# Altium footprint library mb1246b.brd.PcbLib: 73 footprints (part 3 of 6)
Each footprint in its own frame and in the unit in brackets; x right, y up, seen from the top. Pads: shape width x height; smd on the part's side, far side on the other; paste and mask are expansions set on the pad; w line width, h text height; cw(c..) or ccw(c..) is an arc to the next point about the centre after c.
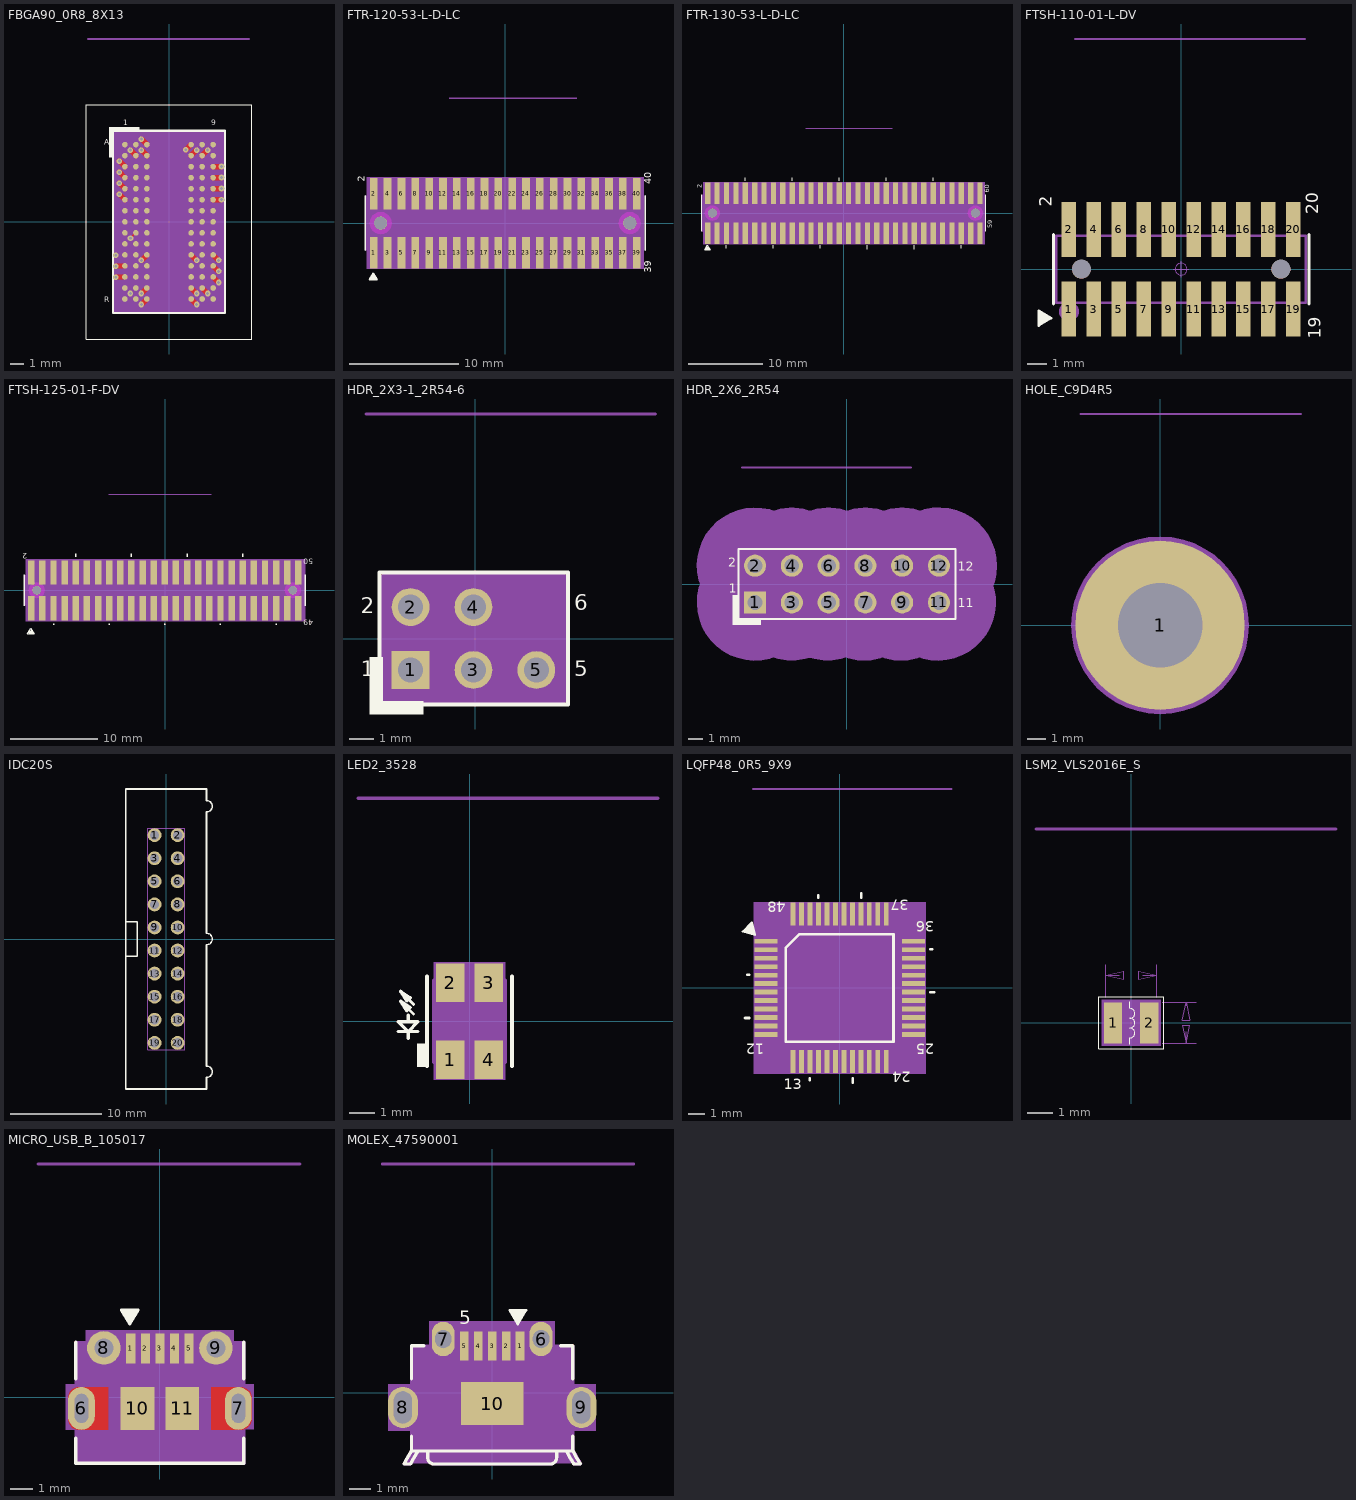
[diagram p2: the footprints below, top view; thin cyan lines are the x and y axes]

## FBGA90_0R8_8X13 [mil] "FBGA90_0R8_8X13"
pads (90):
  round 16 smd: A1(-125.98,220.47) A2(-94.49,220.47) A3(-62.99,220.47) A7(62.99,220.47) A8(94.49,220.47) A9(125.98,220.47) B1(-125.98,188.98) B2(-94.49,188.98) B3(-62.99,188.98) B7(62.99,188.98) B8(94.49,188.98) B9(125.98,188.98) C1(-125.98,157.48) C2(-94.49,157.48) C3(-62.99,157.48) C7(62.99,157.48) C8(94.49,157.48) C9(125.98,157.48) D1(-125.98,125.98) D2(-94.49,125.98) D3(-62.99,125.98) D7(62.99,125.98) D8(94.49,125.98) D9(125.98,125.98) E1(-125.98,94.49) E2(-94.49,94.49) E3(-62.99,94.49) E7(62.99,94.49) E8(94.49,94.49) E9(125.98,94.49) F1(-125.98,62.99) F2(-94.49,62.99) F3(-62.99,62.99) F7(62.99,62.99) F8(94.49,62.99) F9(125.98,62.99) G1(-125.98,31.5) G2(-94.49,31.5) G3(-62.99,31.5) G7(62.99,31.5) G8(94.49,31.5) G9(125.98,31.5) H1(-125.98,0) H2(-94.49,0) H3(-62.99,0) H7(62.99,0) H8(94.49,0) H9(125.98,0) J1(-125.98,-31.5) J2(-94.49,-31.5) J3(-62.99,-31.5) J7(62.99,-31.5) J8(94.49,-31.5) J9(125.98,-31.5) K1(-125.98,-62.99) K2(-94.49,-62.99) K3(-62.99,-62.99) K7(62.99,-62.99) K8(94.49,-62.99) K9(125.98,-62.99) L1(-125.98,-94.49) L2(-94.49,-94.49) L3(-62.99,-94.49) L7(62.99,-94.49) L8(94.49,-94.49) L9(125.98,-94.49) M1(-125.98,-125.98) M2(-94.49,-125.98) M3(-62.99,-125.98) M7(62.99,-125.98) M8(94.49,-125.98) M9(125.98,-125.98) N1(-125.98,-157.48) N2(-94.49,-157.48) N3(-62.99,-157.48) N7(62.99,-157.48) N8(94.49,-157.48) N9(125.98,-157.48) P1(-125.98,-188.98) P2(-94.49,-188.98) P3(-62.99,-188.98) P7(62.99,-188.98) P8(94.49,-188.98) P9(125.98,-188.98) R1(-125.98,-220.47) R2(-94.49,-220.47) R3(-62.99,-220.47) R7(62.99,-220.47) R8(94.49,-220.47) R9(125.98,-220.47)
via -78.74,236.22 diameter 16 hole 8
via 48,205.48 diameter 16 hole 8
via -110.24,204.73 diameter 16 hole 8
via -78.74,204.73 diameter 16 hole 8
via 78.74,204.73 diameter 16 hole 8
via 110.23,204.73 diameter 16 hole 8
via -141.73,173.23 diameter 16 hole 8
via 150.01,157.99 diameter 16 hole 8
via -141.73,141.73 diameter 16 hole 8
via 150,126.49 diameter 16 hole 8
via -141.73,110.24 diameter 16 hole 8
via 150,95 diameter 16 hole 8
via -141.73,78.74 diameter 16 hole 8
via 150,63.5 diameter 16 hole 8
via -110,-47.01 diameter 16 hole 8
via -151.97,-95.24 diameter 16 hole 8
via 141.72,-110.23 diameter 16 hole 8
via -78.74,-110.24 diameter 16 hole 8
via 78.74,-110.24 diameter 16 hole 8
via -151.97,-126.73 diameter 16 hole 8
via 141.72,-141.72 diameter 16 hole 8
via -151.97,-158.24 diameter 16 hole 8
via 141.73,-173.23 diameter 16 hole 8
via -110.24,-204.72 diameter 16 hole 8
via 110.23,-204.72 diameter 16 hole 8
via -78.74,-204.73 diameter 16 hole 8
via 78.74,-204.73 diameter 16 hole 8
via -78.74,-236.22 diameter 16 hole 8
via 78.74,-236.22 diameter 16 hole 8
Top Layer:
  lines w4: -110,-47.01 -94.49,-31.5
  lines w15: -151.97,-158.24 -151.21,-157.48 -125.98,-157.48 ; -151.97,-126.73 -151.22,-125.98 -125.98,-125.98 ; -141.73,78.74 -125.98,62.99 ; -141.73,110.24 -125.98,94.49 ; -141.73,141.73 -125.98,125.98 ; -141.73,173.23 -125.98,157.48 ; -110.24,204.73 -94.49,188.98 ; -78.74,-236.22 -62.99,-220.47 ; -78.74,-204.73 -62.99,-188.98 ; -78.74,-110.24 -62.99,-94.49 ; -78.74,204.73 -62.99,188.98 ; -78.74,236.22 -62.99,220.47 ; 48,205.48 62.99,220.47 ; 62.99,-220.47 78.74,-236.22 ; 62.99,-188.98 78.74,-204.73 ; 62.99,-94.49 78.74,-110.24 ; 62.99,188.98 78.74,204.73 ; 94.49,-188.98 110.23,-204.72 ; 94.49,188.98 110.23,204.73 ; 125.98,-157.48 141.73,-173.23 ; 125.98,-125.98 141.72,-141.72 ; 125.98,-94.49 141.72,-110.23 ; 125.98,62.99 149.49,62.99 150,63.5 ; 125.98,94.49 149.49,94.49 150,95 ; 125.98,125.98 149.49,125.98 150,126.49 ; 125.98,157.48 149.5,157.48 150.01,157.99
Top Overlay:
  dashed: -85,260 -85,270 -170,270 -170,185 -160,185 -160,260
  lines w1: -236.22,-334.65 -236.22,334.65 236.22,334.65 236.22,-334.65 -236.22,-334.65
  lines w5.91: -160,-260 -160,260 160,260 160,-260 -160,-260
  text "A" at -185,220 h15.98
  text "1" at -130,275 h15.98
  text "9" at 120,275 h15.98
  text "R" at -185,-230 h15.98
Top 3D Body:
  region: -155,-255.91 155,-255.91 155,255.91 -155,255.91
Top Component Center:
  circle w1: c0,0 r11.81
  circle w1: c0,0 r11.81
  lines w1: -15.75,0 15.75,0 -15.75,0 ; 0,-15.75 0,15.75 0,-15.75
Top Assembly:
  dashed: 20,255 -155,80 -155,255
  lines w5: -157.48,-255.91 -157.48,255.91 157.48,255.91 157.48,-255.91 -157.48,-255.91
  text "IS42S32800G-6BLI" at 15,-517 h30
  text ".Designator" at 5,-85 h50
Mechanical42:
  text "E7" at 62.99,81.69 h16
  text "H7" at 62.99,-12.8 h16
  text "E3" at -62.99,81.69 h16
  text "K3" at -62.99,-75.79 h16
  text "K2" at -94.49,-75.79 h16
  text "H3" at -62.99,-12.8 h16
  text "H8" at 94.49,-12.8 h16
  text "J7" at 62.99,-44.3 h16
  text "H9" at 125.98,-12.8 h16
  text "G3" at -62.99,18.7 h16
  text "G2" at -94.49,18.7 h16
  text "G1" at -125.98,18.7 h16
  text "F3" at -62.99,50.19 h16
  text "F7" at 62.99,50.19 h16
  text "G9" at 125.98,18.7 h16
  text "G8" at 94.49,18.7 h16
  text "R2" at -94.49,-233.27 h16
  text "N3" at -62.99,-170.28 h16
  text "R1" at -125.98,-233.27 h16
  text "N2" at -94.49,-170.28 h16
  text "P1" at -125.98,-201.78 h16
  text "M2" at -94.49,-138.78 h16
  text "M3" at -62.99,-138.78 h16
  text "L2" at -94.49,-107.29 h16
  text "L8" at 94.49,-107.29 h16
  text "M7" at 62.99,-138.78 h16
  text "N8" at 94.49,-170.28 h16
  text "R9" at 125.98,-233.27 h16
  text "N7" at 62.99,-170.28 h16
  text "R8" at 94.49,-233.27 h16
  text "F2" at -94.49,50.19 h16
  text "F8" at 94.49,50.19 h16
  text "J8" at 94.49,-44.3 h16
  text "K8" at 94.49,-75.79 h16
  text "K7" at 62.99,-75.79 h16
  text "J1" at -125.98,-44.3 h16
  text "J9" at 125.98,-44.3 h16
  text "K1" at -125.98,-75.79 h16
  text "K9" at 125.98,-75.79 h16
  text "C1" at -125.98,144.68 h16
  text "D1" at -125.98,113.18 h16
  text "F1" at -125.98,50.19 h16
  text "M1" at -125.98,-138.78 h16
  text "N1" at -125.98,-170.28 h16
  text "B3" at -62.99,176.18 h16
  text "A3" at -62.99,207.67 h16
  text "P3" at -62.99,-201.78 h16
  text "L3" at -62.99,-107.29 h16
  text "R3" at -62.99,-233.27 h16
  text "B8" at 94.49,176.18 h16
  text "E9" at 125.98,81.69 h16
  text "P8" at 94.49,-201.78 h16
  text "L9" at 125.98,-107.29 h16
  text "E1" at -125.98,81.69 h16
  text "L1" at -125.98,-107.29 h16
  text "B2" at -94.49,176.18 h16
  text "B7" at 62.99,176.18 h16
  text "A7" at 62.99,207.67 h16
  text "P2" at -94.49,-201.78 h16
  text "P7" at 62.99,-201.78 h16
  text "L7" at 62.99,-107.29 h16
  text "R7" at 62.99,-233.27 h16
  text "C9" at 125.98,144.68 h16
  text "D9" at 125.98,113.18 h16
  text "F9" at 125.98,50.19 h16
  text "M9" at 125.98,-138.78 h16
  text "N9" at 125.98,-170.28 h16
  text "J2" at -94.49,-44.3 h16
  text "E2" at -94.49,81.69 h16
  text "D3" at -62.99,113.18 h16
  text "D2" at -94.49,113.18 h16
  text "B1" at -125.98,176.18 h16
  text "C2" at -94.49,144.68 h16
  text "A1" at -125.98,207.67 h16
  text "C3" at -62.99,144.68 h16
  text "A2" at -94.49,207.67 h16
  text "A8" at 94.49,207.67 h16
  text "C7" at 62.99,144.68 h16
  text "A9" at 125.98,207.67 h16
  text "C8" at 94.49,144.68 h16
  text "B9" at 125.98,176.18 h16
  text "D8" at 94.49,113.18 h16
  text "D7" at 62.99,113.18 h16
  text "E8" at 94.49,81.69 h16
  text "G7" at 62.99,18.7 h16
  text "J3" at -62.99,-44.3 h16
  text "H2" at -94.49,-12.8 h16
  text "H1" at -125.98,-12.8 h16
  text "M8" at 94.49,-138.78 h16
  text "P9" at 125.98,-201.78 h16
Mechanical44:
  lines w5: -231,522 229,522
  text "Remark: ***" at -201,322 h25
  text "Rev   : A1" at -201,362 h25
  text "Date  : 2008-07-29" at -201,402 h25
  text "Creat : Yuki" at -201,442 h25
  text "Ref PN: MT48LC2M3B2B5" at -201,482 h25
  text "Sofer Lib Information" at -231,532 h25
Mechanical45:
  text "FBGA90_0R8_8X13" at 5,-505 h30
Mechanical49:
  text "OK" at 0,-28 h35
3D body: height 150, standoff 0, extent -155,-255.91 155,255.91

## FTR-120-53-L-D-LC [mil] "FTR-120-53-L-D-LC"
pads (42):
  rect 28x114 smd: 1(-475,-106.5) 2(-475,106.5) 3(-425,-106.5) 4(-425,106.5) 5(-375,-106.5) 6(-375,106.5) 7(-325,-106.5) 8(-325,106.5) 9(-275,-106.5) 10(-275,106.5) 11(-225,-106.5) 12(-225,106.5) 13(-175,-106.5) 14(-175,106.5) 15(-125,-106.5) 16(-125,106.5) 17(-75,-106.5) 18(-75,106.5) 19(-25,-106.5) 20(-25,106.5) 21(25,-106.5) 22(25,106.5) 23(75,-106.5) 24(75,106.5) 25(125,-106.5) 26(125,106.5) 27(175,-106.5) 28(175,106.5) 29(225,-106.5) 30(225,106.5) 31(275,-106.5) 32(275,106.5) 33(325,-106.5) 34(325,106.5) 35(375,-106.5) 36(375,106.5) 37(425,-106.5) 38(425,106.5) 39(475,-106.5) 40(475,106.5)
  round 47 hole 47 unplated: ""(-450,0) ""(450,0)
Top Overlay:
  lines w5: -478,-191.5 -473,-191.5 -477,-185.5 -483,-194.5 -472,-194.5 -470,-197.5 -485,-197.5 -487,-201.5 -467,-201.5 -467,-205.5 -462,-205.5 ; -462,-205.5 -477,-180.5 -492,-205.5 -462,-205.5
  lines w6: -505.98,-98.03 -505.98,98.03 ; 505.98,-98.03 505.98,98.03
  text "2" at -508,150 h25
  text "40" at 527,140 h25
  text "39" at 527,-180 h25
  text ".Designator" at -528,-35 h35
Top 3D Body:
  region: -500,165 -500,-165 500,-165 500,165
Top Component Center:
  circle w1: c0,0 r11.81
  lines w1: -15.75,0 15.75,0 ; 0,-15.75 0,15.75
Multi-Layer keep-out:
  region: 450,39.71 439.72,38.36 430.15,34.39 421.92,28.08 415.61,19.85 411.64,10.28 410.29,0 411.64,-10.28 415.61,-19.85 421.92,-28.08 430.15,-34.39 439.72,-38.36 450,-39.71 460.28,-38.36 469.85,-34.39 478.08,-28.08 484.39,-19.85 488.36,-10.28 489.71,0 488.36,10.28 484.39,19.85 478.08,28.08 469.85,34.39 460.28,38.36
  region: -450,39.71 -460.28,38.36 -469.85,34.39 -478.08,28.08 -484.39,19.85 -488.36,10.28 -489.71,0 -488.36,-10.28 -484.39,-19.85 -478.08,-28.08 -469.85,-34.39 -460.28,-38.36 -450,-39.71 -439.72,-38.36 -430.15,-34.39 -421.92,-28.08 -415.61,-19.85 -411.64,-10.28 -410.29,0 -411.64,10.28 -415.61,19.85 -421.92,28.08 -430.15,34.39 -439.72,38.36
Top Assembly:
  drawing of 165 lines, arcs and shapes, not listed
  text "P1039-2_20MGF-089-1A" at -13.86,-499.58 h30
Mechanical42:
  text "25" at 132,-134.09 h16
  text "28" at 182,78.9 h16
  text "34" at 332,78.9 h16
  text "33" at 332,-134.09 h16
  text "7" at -318,-121.29 h16
  text "5" at -368,-121.29 h16
  text "36" at 382,78.9 h16
  text "37" at 432,-134.09 h16
  text "35" at 382,-134.09 h16
  text "17" at -68,-134.09 h16
  text "20" at -18,78.9 h16
  text "19" at -18,-134.09 h16
  text "15" at -118,-134.09 h16
  text "16" at -118,78.9 h16
  text "13" at -168,-134.09 h16
  text "12" at -218,78.9 h16
  text "38" at 432,78.9 h16
  text "39" at 482,-134.09 h16
  text "1" at -468,-121.29 h16
  text "2" at -468,91.7 h16
  text "40" at 482,78.9 h16
  text "8" at -318,91.7 h16
  text "10" at -268,78.9 h16
  text "9" at -268,-121.29 h16
  text "30" at 232,78.9 h16
  text "29" at 232,-134.09 h16
  text "32" at 282,78.9 h16
  text "27" at 182,-134.09 h16
  text "24" at 82,78.9 h16
  text "26" at 132,78.9 h16
  text "22" at 32,78.9 h16
  text "6" at -368,91.7 h16
  text "18" at -68,78.9 h16
  text "4" at -418,91.7 h16
  text "3" at -418,-121.29 h16
  text "14" at -168,78.9 h16
  text "11" at -218,-134.09 h16
  text "31" at 282,-134.09 h16
  text "23" at 82,-134.09 h16
  text "21" at 32,-134.09 h16
Mechanical44:
  lines w5: -202.42,451.69 257.58,451.69
  text "Remark: D031-006A1" at -172.42,251.69 h25
  text "Rev   : A1" at -172.42,291.69 h25
  text "Date  : 2012-08-01" at -172.42,331.69 h25
  text "Creat : Yuki" at -172.42,371.69 h25
  text "Ref PN: FTR-120-53-L-D-LC" at -172.42,411.69 h25
  text "Sofer Lib Information" at -202.42,461.69 h25
Mechanical45:
  text "FTR-120-53-L-D-LC" at -19.29,-469.02 h30
Mechanical46:
  text "NO" at 7.92,-42.29 h35
3D body: height 150, standoff 0, extent -500,-165 500,165

## FTR-130-53-L-D-LC [mil] "FTR-130-53-L-D-LC"
pads (62):
  rect 28x114 smd: 1(-725,-106.5) 2(-725,106.5) 3(-675,-106.5) 4(-675,106.5) 5(-625,-106.5) 6(-625,106.5) 7(-575,-106.5) 8(-575,106.5) 9(-525,-106.5) 10(-525,106.5) 11(-475,-106.5) 12(-475,106.5) 13(-425,-106.5) 14(-425,106.5) 15(-375,-106.5) 16(-375,106.5) 17(-325,-106.5) 18(-325,106.5) 19(-275,-106.5) 20(-275,106.5) 21(-225,-106.5) 22(-225,106.5) 23(-175,-106.5) 24(-175,106.5) 25(-125,-106.5) 26(-125,106.5) 27(-75,-106.5) 28(-75,106.5) 29(-25,-106.5) 30(-25,106.5) 31(25,-106.5) 32(25,106.5) 33(75,-106.5) 34(75,106.5) 35(125,-106.5) 36(125,106.5) 37(175,-106.5) 38(175,106.5) 39(225,-106.5) 40(225,106.5) 41(275,-106.5) 42(275,106.5) 43(325,-106.5) 44(325,106.5) 45(375,-106.5) 46(375,106.5) 47(425,-106.5) 48(425,106.5) 49(475,-106.5) 50(475,106.5) 51(525,-106.5) 52(525,106.5) 53(575,-106.5) 54(575,106.5) 55(625,-106.5) 56(625,106.5) 57(675,-106.5) 58(675,106.5) 59(725,-106.5) 60(725,106.5)
  round 47 hole 47 unplated: ""(-700,0) ""(700,0)
Top Overlay:
  lines w5: -728,-181.5 -723,-181.5 -727,-175.5 -733,-184.5 -722,-184.5 -720,-187.5 -735,-187.5 -737,-191.5 -717,-191.5 -717,-195.5 -712,-195.5 ; -712,-195.5 -727,-170.5 -742,-195.5 -712,-195.5
  lines w6: -755.98,-98.03 -755.98,98.03 ; -625,-187 -625,-172 ; -525,173 -525,188 ; -375,-187 -375,-172 ; -275,173 -275,188 ; -125,-187 -125,-172 ; -25,173 -25,188 ; 125,-192 125,-172 ; 225,173 225,188 ; 375,-192 375,-172 ; 475,173 475,188 ; 625,-187 625,-172 ; 755.98,-98.03 755.98,98.03
  text "2" at -756,133 h25
  text "59" at 790,-82 h25
  text "60" at 775,108 h25
Top 3D Body:
  region: -750,-165 750,-165 750,165 -750,165
Top Component Center:
  circle w1: c0,0 r11.81
  lines w1: -15.75,0 15.75,0 ; 0,-15.75 0,15.75
Multi-Layer keep-out:
  region: 700,39.71 689.72,38.36 680.15,34.39 671.92,28.08 665.61,19.85 661.64,10.28 660.29,0 661.64,-10.28 665.61,-19.85 671.92,-28.08 680.15,-34.39 689.72,-38.36 700,-39.71 710.28,-38.36 719.85,-34.39 728.08,-28.08 734.39,-19.85 738.36,-10.28 739.71,0 738.36,10.28 734.39,19.85 728.08,28.08 719.85,34.39 710.28,38.36
  region: -700,39.71 -710.28,38.36 -719.85,34.39 -728.08,28.08 -734.39,19.85 -738.36,10.28 -739.71,0 -738.36,-10.28 -734.39,-19.85 -728.08,-28.08 -719.85,-34.39 -710.28,-38.36 -700,-39.71 -689.72,-38.36 -680.15,-34.39 -671.92,-28.08 -665.61,-19.85 -661.64,-10.28 -660.29,0 -661.64,10.28 -665.61,19.85 -671.92,28.08 -680.15,34.39 -689.72,38.36
Top Assembly:
  drawing of 245 lines, arcs and shapes, not listed
  text ".Designator" at -7.08,-40.29 h30
  text "P1039-2_30MGF-089-1A" at -13.86,-499.58 h30
Mechanical42:
  text "19" at -275,-119.3 h16
  text "23" at -175,-119.3 h16
  text "4" at -675,100.1 h16
  text "11" at -475,-119.3 h16
  text "8" at -575,100.1 h16
  text "17" at -325,-119.3 h16
  text "22" at -225,93.7 h16
  text "26" at -125,93.7 h16
  text "1" at -725,-112.9 h16
  text "45" at 375,-119.3 h16
  text "47" at 425,-119.3 h16
  text "56" at 625,93.7 h16
  text "54" at 575,93.7 h16
  text "53" at 575,-119.3 h16
  text "42" at 275,93.7 h16
  text "36" at 125,93.7 h16
  text "33" at 75,-119.3 h16
  text "40" at 225,93.7 h16
  text "41" at 275,-119.3 h16
  text "43" at 325,-119.3 h16
  text "38" at 175,93.7 h16
  text "15" at -375,-119.3 h16
  text "13" at -425,-119.3 h16
  text "32" at 25,93.7 h16
  text "28" at -75,93.7 h16
  text "27" at -75,-119.3 h16
  text "37" at 175,-119.3 h16
  text "2" at -725,100.1 h16
  text "24" at -175,93.7 h16
  text "34" at 75,93.7 h16
  text "35" at 125,-119.3 h16
  text "9" at -525,-112.9 h16
  text "44" at 325,93.7 h16
  text "46" at 375,93.7 h16
  text "51" at 525,-119.3 h16
  text "52" at 525,93.7 h16
  text "31" at 25,-119.3 h16
  text "29" at -25,-119.3 h16
  text "21" at -225,-119.3 h16
  text "49" at 475,-119.3 h16
  text "60" at 725,93.7 h16
  text "10" at -525,93.7 h16
  text "20" at -275,93.7 h16
  text "30" at -25,93.7 h16
  text "39" at 225,-119.3 h16
  text "50" at 475,93.7 h16
  text "59" at 725,-119.3 h16
  text "48" at 425,93.7 h16
  text "3" at -675,-112.9 h16
  text "16" at -375,93.7 h16
  text "18" at -325,93.7 h16
  text "12" at -475,93.7 h16
  text "14" at -425,93.7 h16
  text "57" at 675,-119.3 h16
  text "7" at -575,-112.9 h16
  text "25" at -125,-119.3 h16
  text "5" at -625,-112.9 h16
  text "6" at -625,100.1 h16
  text "58" at 675,93.7 h16
  text "55" at 625,-119.3 h16
Mechanical44:
  lines w5: -202.42,451.69 257.58,451.69
  text "Remark: D031-006A1" at -172.42,251.69 h25
  text "Rev   : A1" at -172.42,291.69 h25
  text "Date  : 2012-08-01" at -172.42,331.69 h25
  text "Creat : Yuki" at -172.42,371.69 h25
  text "Ref PN: FTR-130-53-L-D-LC" at -172.42,411.69 h25
  text "Sofer Lib Information" at -202.42,461.69 h25
Mechanical45:
  text "FTR-130-53-L-D-LC" at -19.29,-469.02 h30
Mechanical46:
  text "NO" at -2.08,-37.29 h35
3D body: height 150, standoff 0, extent -750,-165 750,165

## FTSH-110-01-L-DV [mil] "FTSH-110-01-L-DV"
pads (22):
  rect 29x110 smd: 1(-225,-79.92) 2(-225,79.92) 3(-175,-79.92) 4(-175,79.92) 5(-125,-79.92) 6(-125,79.92) 7(-75,-79.92) 8(-75,79.92) 9(-25,-79.92) 10(-25,79.92) 11(25,-79.92) 12(25,79.92) 13(75,-79.92) 14(75,79.92) 15(125,-79.92) 16(125,79.92) 17(175,-79.92) 18(175,79.92) 19(225,-79.92) 20(225,79.92)
  round 38 hole 38 unplated: ""(-200,0) ""(200,0)
Top Overlay:
  lines w5: -271.5,-97 -271.5,-102 -265.5,-98 -274.5,-92 -274.5,-103 -277.5,-105 -277.5,-90 -281.5,-88 -281.5,-108 -285.5,-108 -285.5,-113 ; -285.5,-113 -260.5,-98 -285.5,-83 -285.5,-113
  lines w6: -255.98,-70 -255.98,70 ; 255.98,-70 255.98,70
  text "2" at -260,125 h25
  text "20" at 275,110 h25
  text "19" at 280,-140 h25
  text ".Designator" at -265,-50 h35
Top Component Center:
  circle w1: c0,0 r11.81
  lines w1: -15.75,0 15.75,0 ; 0,-15.75 0,15.75
Top Assembly:
  circle w20: c-225,-85 r10
  lines w5: -250,-67.52 -234.84,-67.52 -234.84,-114.96 -215.16,-114.96 -215.16,-67.52 -184.84,-67.52 -184.84,-114.96 -165.16,-114.96 -165.16,-67.52 -134.84,-67.52 -134.84,-114.96 -115.16,-114.96 -115.16,-67.52 -84.84,-67.52 -84.84,-114.96 -65.16,-114.96 -65.16,-67.52 -34.84,-67.52 -34.84,-114.96 -15.16,-114.96 -15.16,-67.52 15.16,-67.52 15.16,-114.96 34.84,-114.96 34.84,-67.52 65.16,-67.52 65.16,-114.96 84.84,-114.96 84.84,-67.52 115.16,-67.52 115.16,-114.96 134.84,-114.96 134.84,-67.52 165.16,-67.52 165.16,-114.96 184.84,-114.96 184.84,-67.52 215.16,-67.52 215.16,-114.96 234.84,-114.96 234.84,-67.52 250,-67.52 250,67.52 234.84,67.52 234.84,114.96 215.16,114.96 215.16,67.52 184.84,67.52 184.84,114.96 165.16,114.96 165.16,67.52 134.84,67.52 134.84,114.96 115.16,114.96 115.16,67.52 84.84,67.52 84.84,114.96 65.16,114.96 65.16,67.52 34.84,67.52 34.84,114.96 15.16,114.96 15.16,67.52 -15.16,67.52 -15.16,114.96 -34.84,114.96 -34.84,67.52 -65.16,67.52 -65.16,114.96 -84.84,114.96 -84.84,67.52 -115.16,67.52 -115.16,114.96 -134.84,114.96 -134.84,67.52 -165.16,67.52 -165.16,114.96 -184.84,114.96 -184.84,67.52 -215.16,67.52 -215.16,114.96 -234.84,114.96 -234.84,67.52 -250,67.52 -250,-67.52
  text "P127B-2_10MGF-079-1E7A" at 25,-519 h30
Mechanical42:
  text "11" at 32,-107.51 h16
  text "9" at -18,-94.71 h16
  text "3" at -168,-94.71 h16
  text "5" at -118,-94.71 h16
  text "17" at 182,-107.51 h16
  text "15" at 132,-107.51 h16
  text "13" at 82,-107.51 h16
  text "19" at 232,-107.51 h16
  text "1" at -218,-94.71 h16
  text "7" at -68,-94.71 h16
  text "12" at 32,52.33 h16
  text "14" at 82,52.33 h16
  text "16" at 132,52.33 h16
  text "18" at 182,52.33 h16
  text "20" at 232,52.33 h16
  text "2" at -218,65.13 h16
  text "4" at -168,65.13 h16
  text "6" at -118,65.13 h16
  text "8" at -68,65.13 h16
  text "10" at -18,52.33 h16
Mechanical44:
  lines w5: -212.42,461.69 247.58,461.69
  text "Remark: D031-006A1" at -182.42,261.69 h25
  text "Rev   : A1" at -182.42,301.69 h25
  text "Date  : 2012-08-01" at -182.42,341.69 h25
  text "Creat : Yuki" at -182.42,381.69 h25
  text "Ref PN: FTSH-110-01-L-DV" at -182.42,421.69 h25
  text "Sofer Lib Information" at -212.42,471.69 h25
Mechanical45:
  text "FTSH-110-01-L-DV" at 10,-447 h30
Mechanical46:
  text "NO" at -2.08,-37.29 h35

## FTSH-125-01-F-DV [mil] "FTSH-125-01-F-DV"
pads (52):
  rect 29x110 smd: 1(-602.5,-79.92) 2(-602.5,79.92) 3(-552.5,-79.92) 4(-552.5,79.92) 5(-502.5,-79.92) 6(-502.5,79.92) 7(-452.5,-79.92) 8(-452.5,79.92) 9(-402.5,-79.92) 10(-402.5,79.92) 11(-352.5,-79.92) 12(-352.5,79.92) 13(-302.5,-79.92) 14(-302.5,79.92) 15(-252.5,-79.92) 16(-252.5,79.92) 17(-202.5,-79.92) 18(-202.5,79.92) 19(-152.5,-79.92) 20(-152.5,79.92) 21(-102.5,-79.92) 22(-102.5,79.92) 23(-52.5,-79.92) 24(-52.5,79.92) 25(-2.5,-79.92) 26(-2.5,79.92) 27(47.5,-79.92) 28(47.5,79.92) 29(97.5,-79.92) 30(97.5,79.92) 31(147.5,-79.92) 32(147.5,79.92) 33(197.5,-79.92) 34(197.5,79.92) 35(247.5,-79.92) 36(247.5,79.92) 37(297.5,-79.92) 38(297.5,79.92) 39(347.5,-79.92) 40(347.5,79.92) 41(397.5,-79.92) 42(397.5,79.92) 43(447.5,-79.92) 44(447.5,79.92) 45(497.5,-79.92) 46(497.5,79.92) 47(547.5,-79.92) 48(547.5,79.92) 49(597.5,-79.92) 50(597.5,79.92)
  round 38 hole 38 unplated: ""(-577.5,0) ""(572.5,0)
Top Overlay:
  lines w5: -605.5,-181.5 -600.5,-181.5 -604.5,-175.5 -610.5,-184.5 -599.5,-184.5 -597.5,-187.5 -612.5,-187.5 -614.5,-191.5 -594.5,-191.5 -594.5,-195.5 -589.5,-195.5 ; -589.5,-195.5 -604.5,-170.5 -619.5,-195.5 -589.5,-195.5
  lines w6: -633.48,-70 -633.48,70 ; -502.5,-155 -502.5,-150 ; -402.5,150 -402.5,165 ; -252.5,-155 -252.5,-150 ; -152.5,150 -152.5,165 ; -2.5,-155 -2.5,-150 ; 97.5,150 97.5,165 ; 247.5,-155 247.5,-150 ; 347.5,150 347.5,165 ; 497.5,-155 497.5,-150 ; 628.48,-70 628.48,70
  text "2" at -620,167.05 h25
  text "50" at 665,142.05 h25
  text "49" at 665,-132.95 h25
  text ".Designator" at -60,-202.95 h35
Top 3D Body:
  region: -627.5,140 -627.5,-140 627.5,-140 627.5,140
Top Component Center:
  circle w1: c-2.5,0 r11.81
  lines w1: -18.25,0 13.25,0 ; -2.5,-15.75 -2.5,15.75
Multi-Layer keep-out:
  region: 536.76,0 537.98,-9.25 541.55,-17.87 547.23,-25.27 554.63,-30.95 563.25,-34.52 572.5,-35.74 581.75,-34.52 590.37,-30.95 597.77,-25.27 603.45,-17.87 607.02,-9.25 608.24,0 607.02,9.25 603.45,17.87 597.77,25.27 590.37,30.95 581.75,34.52 572.5,35.74 563.25,34.52 554.63,30.95 547.23,25.27 541.55,17.87 537.98,9.25
  region: -613.24,0 -612.02,-9.25 -608.45,-17.87 -602.77,-25.27 -595.37,-30.95 -586.75,-34.52 -577.5,-35.74 -568.25,-34.52 -559.63,-30.95 -552.23,-25.27 -546.55,-17.87 -542.98,-9.25 -541.76,0 -542.98,9.25 -546.55,17.87 -552.23,25.27 -559.63,30.95 -568.25,34.52 -577.5,35.74 -586.75,34.52 -595.37,30.95 -602.77,25.27 -608.45,17.87 -612.02,9.25
Top Assembly:
  drawing of 205 lines, arcs and shapes, not listed
  text "P127B-2_25MGF-079-1A" at 277.5,-225 h30
Mechanical42:
  text "36" at 280.1,77.93 h16
  text "22" at -69.9,77.93 h16
  text "33" at 230.1,-81.91 h16
  text "31" at 180.1,-81.91 h16
  text "29" at 130.1,-81.91 h16
  text "18" at -169.9,77.93 h16
  text "27" at 80.1,-81.91 h16
  text "8" at -432.7,77.93 h16
  text "6" at -482.7,77.93 h16
  text "4" at -532.7,77.93 h16
  text "15" at -219.9,-81.91 h16
  text "13" at -269.9,-81.91 h16
  text "11" at -319.9,-81.91 h16
  text "9" at -382.7,-81.91 h16
  text "7" at -432.7,-81.91 h16
  text "5" at -482.7,-81.91 h16
  text "3" at -532.7,-81.91 h16
  text "32" at 180.1,77.93 h16
  text "28" at 80.1,77.93 h16
  text "26" at 30.1,77.93 h16
  text "38" at 330.1,77.93 h16
  text "40" at 380.1,77.93 h16
  text "1" at -582.7,-81.91 h16
  text "19" at -119.9,-81.91 h16
  text "37" at 330.1,-81.91 h16
  text "2" at -582.7,77.93 h16
  text "20" at -119.9,77.93 h16
  text "30" at 130.1,77.93 h16
  text "34" at 230.1,77.93 h16
  text "50" at 630.1,77.93 h16
  text "48" at 580.1,77.93 h16
  text "46" at 530.1,77.93 h16
  text "44" at 480.1,77.93 h16
  text "42" at 430.1,77.93 h16
  text "41" at 430.1,-81.91 h16
  text "24" at -19.9,77.93 h16
  text "39" at 380.1,-81.91 h16
  text "43" at 480.1,-81.91 h16
  text "45" at 530.1,-81.91 h16
  text "47" at 580.1,-81.91 h16
  text "49" at 630.1,-81.91 h16
  text "21" at -69.9,-81.91 h16
  text "35" at 280.1,-81.91 h16
  text "16" at -219.9,77.93 h16
  text "14" at -269.9,77.93 h16
  text "25" at 30.1,-81.91 h16
  text "23" at -19.9,-81.91 h16
  text "12" at -319.9,77.93 h16
  text "10" at -369.9,77.93 h16
  text "17" at -169.9,-81.91 h16
Mechanical44:
  lines w5: -254.92,431.69 205.08,431.69
  text "Remark: D031-006A1" at -224.92,231.69 h25
  text "Rev   : A1" at -224.92,271.69 h25
  text "Date  : 2012-08-01" at -224.92,311.69 h25
  text "Creat : Yuki" at -224.92,351.69 h25
  text "Ref PN: FTSH-125-01-F-DV" at -224.92,391.69 h25
  text "Sofer Lib Information" at -254.92,441.69 h25
Mechanical45:
  text "FTSH-125-01-F-DV" at 214.5,-225 h30
Mechanical46:
  text "NO" at 23.42,-19.29 h35
3D body: height 150, standoff 0, extent -627.5,-140 627.5,140

## HDR_2X3-1_2R54-6 [mil] "HDR_2X3-1_2R54-6"
pads (5):
  rect 60x60 / inner round 60 / far side rect 60x60 hole 40: 1(-102.89,-50)
  round 60 hole 40: 2(-102.89,50) 3(-2.89,-50) 4(-2.89,50) 5(97.11,-50)
Top Overlay:
  dashed: -167.5,-30 -147.5,-30 -147.5,-100 -82.5,-100 -82.5,-120 -167.5,-120
  lines w6: -152.5,-105 -152.5,105 147.5,105 147.5,-105 -152.5,-105
  text "2" at -182.5,40 h25
  text "6" at 157.11,45 h25
  text "5" at 157.5,-60 h25
  text ".Designator" at -197.89,-125 h35
  text "1" at -182.5,-60 h25
Top 3D Body:
  region: -147.5,-100 147.5,-100 147.5,100 -147.5,100
Top Component Center:
  circle w1: c-102.89,-50 r11.81
  lines w1: -118.64,-50 -87.14,-50 ; -102.89,-65.75 -102.89,-34.25
Top Assembly:
  lines w5: -147.5,-100 -147.5,100 142.5,100 142.5,-100 -147.5,-100
  text "[N_A]" at -47.5,-250 h30
Mechanical42:
  text "2" at -102.89,43.6 h16
  text "1" at -102.89,-56.4 h16
  text "3" at -2.89,-56.4 h16
  text "5" at 97.11,-56.4 h16
  text "4" at -2.89,43.6 h16
Mechanical44:
  lines w5: -173.5,357 286.5,357
  text "Sofer Lib Information" at -173.5,367 h25
  text "Ref PN: ***" at -143.5,317 h25
  text "Creat : Yuki" at -143.5,277 h25
  text "Date  : 2012-08-02" at -143.5,237 h25
  text "Rev   : A1" at -143.5,197 h25
  text "Remark: D031-006A1" at -143.5,157 h25
Mechanical45:
  text "HDR_2X3-1_2R54-6" at -2.5,-377 h30
Mechanical49:
  text "OK" at 12.5,-48 h35
3D body: height 150, standoff 0, extent -147.5,-100 147.5,100

## HDR_2X6_2R54 [mil] "HDR_2X6_2R54"
pads (12):
  rect 60x60 / inner round 60 / far side rect 60x60 hole 40: 1(-250,-50)
  round 60 hole 40: 2(-250,50) 3(-150,-50) 4(-150,50) 5(-50,-50) 6(-50,50) 7(50,-50) 8(50,50) 9(150,-50) 10(150,50) 11(250,-50) 12(250,50)
Top Overlay:
  dashed: -310,-30 -295,-30 -295,-95 -235,-95 -235,-110 -310,-110
  lines w6: -295,-95 -295,95 295,95 295,-95 -295,-95
  text "12" at 301,36.67 h25
  text "11" at 301,-63.33 h25
  text "2" at -323,47 h25
  text "1" at -321,-23 h25
  text ".Designator" at -312,-161 h35
Top 3D Body:
  region: -289.37,-89.37 290,-89.37 290,90 -289.37,90
Bottom 3D Body:
  region: -101.57,-199.85 -113.5,-203.71 -138.29,-207.54 -163.37,-207.41 -188.11,-203.31 -200,-199.33 -210.36,-202.8 -231.85,-206.81 -253.68,-207.81 -275.44,-205.79 -296.71,-200.78 -317.09,-192.89 -336.18,-182.25 -353.62,-169.08 -369.08,-153.63 -382.25,-136.18 -392.89,-117.09 -400.78,-96.71 -405.79,-75.44 -407.81,-53.68 -406.81,-31.85 -402.8,-10.36 -399.33,0 -402.8,10.36 -406.81,31.85 -407.81,53.68 -405.79,75.44 -400.79,96.71 -392.89,117.09 -382.25,136.19 -369.08,153.63 -353.63,169.08 -336.19,182.25 -317.09,192.89 -296.71,200.79 -275.44,205.79 -253.68,207.81 -231.85,206.81 -210.36,202.8 -200,199.33 -193.97,201.35 -181.61,204.4 -169.05,206.45 -156.36,207.48 -143.64,207.48 -130.95,206.45 -118.39,204.4 -106.03,201.35 -100,199.33 -93.97,201.35 -81.61,204.4 -69.05,206.45 -56.36,207.48 -43.64,207.48 -30.95,206.45 -18.39,204.4 -6.03,201.35 0,199.33 6.03,201.35 18.39,204.4 30.95,206.45 43.64,207.48 56.36,207.48 69.05,206.45 81.61,204.4 93.97,201.35 100,199.33 105.99,201.33 118.24,204.37 130.7,206.42 143.28,207.46 149.59,207.48 156,207.5 168.79,206.49 181.46,204.44 193.92,201.37 200,199.33 210.51,202.85 232.31,206.87 254.46,207.8 276.52,205.62 298.06,200.37 318.65,192.16 337.88,181.14 355.39,167.54 370.81,151.62 383.86,133.69 394.26,114.11 401.82,93.28 406.38,71.58 407.86,49.46 406.23,27.36 401.52,5.69 397.67,-4.7 400.77,-15.02 404.1,-36.3 404.5,-57.85 401.96,-79.24 396.53,-100.09 388.32,-120.01 377.47,-138.62 364.18,-155.59 348.71,-170.58 331.34,-183.33 312.4,-193.59 292.23,-201.18 271.22,-205.95 249.76,-207.82 228.24,-206.74 207.07,-202.75 196.85,-199.33 190.82,-201.35 178.46,-204.4 165.9,-206.45 153.21,-207.48 140.49,-207.48 127.8,-206.45 115.24,-204.4 102.88,-201.35 96.85,-199.33 90.82,-201.35 78.46,-204.4 65.9,-206.45 53.21,-207.48 40.49,-207.48 27.8,-206.45 15.24,-204.4 2.88,-201.35 -3.15,-199.33 -15.04,-203.31 -39.78,-207.41 -64.86,-207.54 -89.64,-203.71
Top Component Center:
  circle w1: c-250,-50 r11.81
  circle w1: c-250,-50 r11.81
  lines w1: -265.75,-50 -234.25,-50 -265.75,-50 ; -250,-65.75 -250,-34.25 -250,-65.75
Top Assembly:
  lines w5: -288.78,-90.63 -288.78,90.63 288.78,90.63 288.78,-90.63 -288.78,-90.63
  text "Header 6X2" at -110,-270 h30
Mechanical42:
  text "1" at -250,-56.4 h16
  text "5" at -50,-56.4 h16
  text "11" at 250,-62.8 h16
  text "9" at 150,-56.4 h16
  text "3" at -150,-56.4 h16
  text "7" at 50,-56.4 h16
  text "2" at -250,43.6 h16
  text "4" at -150,43.6 h16
  text "6" at -50,43.6 h16
  text "8" at 50,43.6 h16
  text "10" at 150,37.2 h16
  text "12" at 250,37.2 h16
Mechanical44:
  lines w5: -286,317 174,317
  text "Remark: ***" at -256,117 h25
  text "Rev   : B1" at -256,157 h25
  text "Date  : 2007-11-25" at -256,197 h25
  text "Creat : Sofer Tech" at -256,237 h25
  text "Ref PN: ***" at -256,277 h25
  text "Sofer Lib Information" at -286,327 h25
Mechanical45:
  text "HDR_2X6_2R54" at -105,-294 h30
Mechanical48:
  lines w1: -287,-91 -287,90 289,90 289,-91 -287,-91
Mechanical49:
  text "Approved" at -20,-123.67 h35
3D body: height 150, standoff 0, extent -289.37,-89.37 290,90
3D body: height 150, standoff 0, extent -407.81,-207.82 407.86,207.81

## HOLE_C9D4R5 [mil] "HOLE_C9D4R5"
pads (1):
  round 354 hole 177: 1(0,0)
Top 3D Body:
  region: 185.5,0 183.91,24.21 179.18,48.01 171.38,70.99 160.65,92.75 147.16,112.92 131.17,131.17 112.92,147.16 92.75,160.65 70.99,171.38 48.01,179.18 24.21,183.91 0,185.5 -24.21,183.91 -48.01,179.18 -70.99,171.38 -92.75,160.65 -112.92,147.16 -131.17,131.17 -147.16,112.92 -160.65,92.75 -171.38,70.99 -179.18,48.01 -183.91,24.21 -185.5,0 -183.91,-24.21 -179.18,-48.01 -171.38,-70.99 -160.65,-92.75 -147.16,-112.92 -131.17,-131.17 -112.92,-147.16 -92.75,-160.65 -70.99,-171.38 -48.01,-179.18 -24.21,-183.91 0,-185.5 24.21,-183.91 48.01,-179.18 70.99,-171.38 92.75,-160.65 112.92,-147.16 131.17,-131.17 147.16,-112.92 160.65,-92.75 171.38,-70.99 179.18,-48.01 183.91,-24.21
Top Component Center:
  circle w1: c0,0 r11.8
  lines w1: -15.8,0 15.8,0 ; 0,-15.8 0,15.8
Top Assembly:
  text "POSITION HOLE" at -121,-260 h30
Mechanical42:
  text "1" at -2.8,-10 h16
Mechanical44:
  lines w5: -166,442 294,442
  text "Remark: D031-006A1" at -136,242 h25
  text "Rev   : A1" at -136,282 h25
  text "Date  : 2012-08-01" at -136,322 h25
  text "Creat : Yuki" at -136,362 h25
  text "Ref PN: M4 HOLE" at -136,402 h25
  text "Sofer Lib Information" at -166,452 h25
Mechanical45:
  text "HOLE_C9D4R5" at -92,-260 h30
Mechanical49:
  text "OK" at -28,0 h35
3D body: height 150, standoff 0, extent -185.5,-185.5 185.5,185.5

## IDC20S [mil] "IDC20S"
pads (20):
  round 60 hole 40: 1(-50,450) 2(50,450) 3(-50,350) 4(50,350) 5(-50,250) 6(50,250) 7(-50,150) 8(50,150) 9(-50,50) 10(50,50) 11(-50,-50) 12(50,-50) 13(-50,-150) 14(50,-150) 15(-50,-250) 16(50,-250) 17(-50,-350) 18(50,-350) 19(-50,-450) 20(50,-450)
Top Overlay:
  lines w6: 175,-600 ccw(c175,-575) 175,-550 ; 175,-25 ccw(c175,0) 175,25 ; 175,550 ccw(c175,575) 175,600
  lines w8: -175,-75 -125,-75 -125,75 -175,75 ; 175,-600 175,-650 -175,-650 -175,650 175,650 175,600 ; 175,-550 175,-25 ; 175,25 175,550
Top 3D Body:
  lines w1: -80,-480 -80,480 80,480 80,-480 -80,-480
Top Assembly:
  lines w1: -80,-480 -80,480 80,480 80,-480 -80,-480
  text ".Designator" at -179,712 h60
Mechanical42:
  text "4" at 43.6,350 h16
  text "10" at 37.2,50 h16
  text "8" at 43.6,150 h16
  text "6" at 43.6,250 h16
  text "14" at 37.2,-150 h16
  text "12" at 37.2,-50 h16
  text "18" at 37.2,-350 h16
  text "16" at 37.2,-250 h16
  text "20" at 37.2,-450 h16
  text "2" at 43.6,450 h16
  text "1" at -56.4,450 h16
  text "7" at -56.4,150 h16
  text "9" at -56.4,50 h16
  text "13" at -62.8,-150 h16
  text "5" at -56.4,250 h16
  text "15" at -62.8,-250 h16
  text "3" at -56.4,350 h16
  text "11" at -62.8,-50 h16
  text "17" at -62.8,-350 h16
  text "19" at -62.8,-450 h16

## LED2_3528 [mil] "LED2_3528"
pads (4):
  rect 44x59 smd: 1(-29.53,-59.06) 2(-29.53,59.06) 3(29.53,59.06) 4(29.53,-59.06)
Top Overlay:
  dashed: -80,-35 -80,-70 -65,-70 -65,-35
  lines w5: -109.09,-16 -79.09,-16 ; -94.09,-26 -94.09,-16 ; -94.09,-1 -94.09,9 ; -85.91,11 -105.91,31 ; -85.91,26 -105.91,46 ; -105.91,31 -90.91,21 -95.91,16 -105.91,31 ; -105.91,46 -90.91,36 -95.91,31 -105.91,46 ; -94.09,-16 -109.09,-1 -104.09,-1 -79.09,-1 -94.09,-16
  lines w6: -65.12,-68.9 -65.12,68.9 ; 65.12,-68.9 65.12,68.9
  text ".Designator" at 100,-45 h35
Top 3D Body:
  region: 55,90 -55,90 -55,-90 55,-90
Top Component Center:
  circle w1: c0,0 r11.81
  lines w1: -15.75,0 15.75,0 ; 0,-15.75 0,15.75
Top Assembly:
  circle w5: c0,0 r47.24
  circle w5: c0,0 r36.06
  lines w5: -55,-35 -30,-60 ; -43.31,-62.99 -15.75,-62.99 ; -43.31,-62.99 -55.12,-62.99 -55.12,62.99 -43.31,62.99 ; -43.31,-62.99 -43.31,-68.9 -15.75,-68.9 -15.75,-62.99 ; -43.31,62.99 -15.75,62.99 ; -43.31,62.99 -43.31,68.9 -15.75,68.9 -15.75,62.99 ; -15.75,-62.99 15.75,-62.99 ; -15.75,62.99 15.75,62.99 ; 15.75,-62.99 43.31,-62.99 ; 15.75,-62.99 15.75,-68.9 43.31,-68.9 43.31,-62.99 ; 15.75,62.99 43.31,62.99 ; 15.75,62.99 15.75,68.9 43.31,68.9 43.31,62.99 ; 43.31,-62.99 55.12,-62.99 55.12,62.99 43.31,62.99
  text "HSMF-A201-A00J1" at -180,-170 h30
Mechanical42:
  text "1" at -35.93,-59.06 h16
  text "2" at -35.93,59.06 h16
  text "3" at 23.13,59.06 h16
  text "4" at 23.13,-59.06 h16
Mechanical44:
  lines w5: -171,342 289,342
  text "Sofer Lib Information" at -171,352 h25
  text "Ref PN: 3528" at -141,302 h25
  text "Creat : Yuki" at -141,262 h25
  text "Date  : 2012-08-03" at -141,222 h25
  text "Rev   : A1" at -141,182 h25
  text "Remark: D031-006A1" at -141,142 h25
Mechanical45:
  text "LED2_3528" at -108,-165 h30
3D body: height 150, standoff 0, extent -55,-90 55,90

## LQFP48_0R5_9X9 [mil] "LQFP48_0R5_9X9"
pads (48):
  rect 53x11 smd: 1(-171.26,108.27) 2(-171.26,88.58) 3(-171.26,68.9) 4(-171.26,49.21) 5(-171.26,29.53) 6(-171.26,9.84) 7(-171.26,-9.84) 8(-171.26,-29.53) 9(-171.26,-49.21) 10(-171.26,-68.9) 11(-171.26,-88.58) 12(-171.26,-108.27) 25(171.26,-108.27) 26(171.26,-88.58) 27(171.26,-68.9) 28(171.26,-49.21) 29(171.26,-29.53) 30(171.26,-9.84) 31(171.26,9.84) 32(171.26,29.53) 33(171.26,49.21) 34(171.26,68.9) 35(171.26,88.58) 36(171.26,108.27)
  rect 11x53 smd: 13(-108.27,-171.26) 14(-88.58,-171.26) 15(-68.9,-171.26) 16(-49.21,-171.26) 17(-29.53,-171.26) 18(-9.84,-171.26) 19(9.84,-171.26) 20(29.53,-171.26) 21(49.21,-171.26) 22(68.9,-171.26) 23(88.58,-171.26) 24(108.27,-171.26) 37(108.27,171.26) 38(88.58,171.26) 39(68.9,171.26) 40(49.21,171.26) 41(29.53,171.26) 42(9.84,171.26) 43(-9.84,171.26) 44(-29.53,171.26) 45(-49.21,171.26) 46(-68.9,171.26) 47(-88.58,171.26) 48(-108.27,171.26)
Top Overlay:
  lines w5: -203.94,131.97 -207.47,128.43 -200.4,127.02 -202.53,137.63 -210.3,129.85 -213.84,130.55 -203.23,141.16 -204.65,145.4 -218.79,131.26 -221.62,134.09 -225.15,130.55 ; -225.15,130.55 -196.87,123.48 -203.94,151.77 -225.15,130.55
  lines w6: -220,-70 -210,-70 ; -215,30 -210,30 ; -93.5,125 -125,93.5 -125,-125 125,-125 125,125 -93,125 ; -70,-215 -70,-210 ; -50,210 -50,215 ; 30,-220 30,-210 ; 50,210 50,220 ; 210,-10 220,-10 ; 210,90 215,90
  text "12" at -175,-130 h25
  text "13" at -130,-235 h25
  text "24" at 165,-195 h25
  text "25" at 220,-130 h25
  text "36" at 220,155 h25
  text "37" at 160,205 h25
  text "48" at -125,200 h25
  text ".Designator" at -230,165 h35
Top Courtyard:
  dashed: -199.32,-199.32 199.32,-199.32 199.32,199.32 -199.32,199.32
Top 3D Body:
  region: -199.32,-199.32 199.32,-199.32 199.32,199.32 -199.32,199.32
Top Component Center:
  circle w1: c0,0 r11.81
  lines w1: -15.75,0 15.75,0 ; 0,-15.75 0,15.75
Top Assembly:
  dashed: -88,180 -175,180 -180,175 -180,88
  lines w5: -177.17,-177.17 -177.17,177.17 177.17,177.17 177.17,-177.17 -177.17,-177.17
  text "STM32L152CCT6" at 96,-290 h30
Mechanical42:
  text "8" at -164.86,-29.53 h16
  text "23" at 101.38,-171.26 h16
  text "47" at -75.78,171.26 h16
  text "35" at 184.06,88.58 h16
  text "24" at 121.07,-171.26 h16
  text "1" at -164.86,108.27 h16
  text "48" at -95.47,171.26 h16
  text "36" at 184.06,108.27 h16
  text "16" at -36.41,-171.26 h16
  text "34" at 184.06,68.9 h16
  text "37" at 121.07,171.26 h16
  text "14" at -75.78,-171.26 h16
  text "25" at 184.06,-108.27 h16
  text "38" at 101.38,171.26 h16
  text "41" at 42.33,171.26 h16
  text "13" at -95.47,-171.26 h16
  text "3" at -164.86,68.9 h16
  text "4" at -164.86,49.21 h16
  text "6" at -164.86,9.84 h16
  text "5" at -164.86,29.53 h16
  text "11" at -158.46,-88.58 h16
  text "10" at -158.46,-68.9 h16
  text "12" at -158.46,-108.27 h16
  text "17" at -16.73,-171.26 h16
  text "22" at 81.7,-171.26 h16
  text "18" at 2.96,-171.26 h16
  text "19" at 22.64,-171.26 h16
  text "20" at 42.33,-171.26 h16
  text "39" at 81.7,171.26 h16
  text "40" at 62.01,171.26 h16
  text "27" at 184.06,-68.9 h16
  text "28" at 184.06,-49.21 h16
  text "26" at 184.06,-88.58 h16
  text "9" at -164.86,-49.21 h16
  text "7" at -164.86,-9.84 h16
  text "21" at 62.01,-171.26 h16
  text "2" at -164.86,88.58 h16
  text "42" at 22.64,171.26 h16
  text "43" at 2.96,171.26 h16
  text "44" at -16.73,171.26 h16
  text "45" at -36.41,171.26 h16
  text "46" at -56.1,171.26 h16
  text "15" at -56.1,-171.26 h16
  text "29" at 184.06,-29.53 h16
  text "30" at 184.06,-9.84 h16
  text "32" at 184.06,29.53 h16
  text "31" at 184.06,9.84 h16
  text "33" at 184.06,49.21 h16
Mechanical44:
  lines w5: -201,462 259,462
  text "Remark: ***" at -171,262 h25
  text "Rev   : B1" at -171,302 h25
  text "Date  : 2007-11-27" at -171,342 h25
  text "Creat : Yuki" at -171,382 h25
  text "Ref PN: RTL8211CL-GR" at -171,422 h25
  text "Sofer Lib Information" at -201,472 h25
Mechanical45:
  text "LQFP48_0R6_9X9" at 148,-290 h30
Mechanical48:
  lines w1: -177,-177 -177,177 177,177 177,-177 -177,-177
Mechanical49:
  text "Approved" at 112,0 h35
3D body: height 150, standoff 0, extent -199.32,-199.32 199.32,199.32

## LSM2_VLS2016E_S [mil] "LSM2_VLS2016E_S"
pads (2):
  rect 28x63 smd: 1(-27.78,0) 2(27.78,0)
Top Overlay:
  lines w1: -2,-33 -2,-23 ccw(c-2,-15.5) -2,-8 ccw(c-2,-0.5) -2,7 ccw(c-2,14.5) -2,22 -2,32 ; -50,-40 -50,40 50,40 50,-40 -50,-40
Top 3D Body:
  region: -45,-35 45,-35 45,35 -45,35
Top Component Center:
  circle w1: c0,0 r11.81
  circle w1: c0,0 r11.81
  lines w1: -15.75,0 15.75,0 -15.75,0 ; 0,-15.75 0,15.75 0,-15.75
Top Assembly:
  lines w5: -39.37,-31.5 -39.37,31.5 39.37,31.5 39.37,-31.5 -39.37,-31.5
  text "2.2uH(LQM2MPN2R2NG0)" at -205,-140 h30
  text ".Designator" at -24,-5 h30
Mechanical42:
  text "1" at -34.18,0 h16
  text "2" at 21.38,0 h16
Mechanical44:
  lines w5: -146,297 314,297
  text "Remark: SH21_HH_PRO_14" at -116,97 h25
  text "Rev   : A1" at -116,137 h25
  text "Date  : 2010-12-28" at -116,177 h25
  text "Creat : Yuki" at -116,217 h25
  text "Ref PN: VLS2016E" at -116,257 h25
  text "Sofer Lib Information" at -146,307 h25
Mechanical45:
  text "LSM2_VLS2016E" at -111,-140 h30
Mechanical47:
  lines w1: -39.37,39.37 -39.37,88.75 ; -18,73 -39.37,73 ; 18,73 39.37,73 ; 39.37,39.37 39.37,88.75 ; 47.24,-31.5 99.75,-31.5 ; 47.24,31.5 99.75,31.5 ; 84,-14 84,-31.5 ; 84,26 84,31.5 ; -39.37,73 -11.81,67.09 -11.81,78.91 -39.37,73 ; 39.37,73 11.81,78.91 11.81,67.09 39.37,73 ; 84,-31.5 89.91,-3.94 78.09,-3.94 84,-31.5 ; 84,31.5 78.09,3.94 89.91,3.94 84,31.5
  text "1.6" at 66,-2 h16
  text "2" at -6,65 h16
Mechanical49:
  text "OK" at -28,0 h35
3D body: height 150, standoff 0, extent -45,-35 45,35

## MICRO_USB_B_105017 [mil] "MICRO_USB_B_105017"
pads (11):
  rect 16x53 smd: 1(-51.18,85.45) 2(-25.59,85.45) 3(0,85.45) 4(25.59,85.45) 5(51.18,85.45)
  oval 47x75 hole 24 slot 51 at 90 deg: 6(-137.8,-19.86) 7(137.8,-19.86)
  round 59 hole 33: 8(-98.43,86.44) 9(98.43,86.44)
  rect 59x75 smd: 10(-39.37,-19.86) 11(39.37,-19.86)
Top Layer:
  region: -161.42,-2.15 -161.42,-37.58 -161.42,-41.5 -158.42,-48.73 -152.88,-54.27 -145.65,-57.26 -141.73,-57.26 -90.55,-57.26 -90.55,17.54 -141.73,17.54 -145.65,17.54 -152.88,14.54 -158.42,9 -161.42,1.77
  region: 161.42,-37.58 161.42,-2.15 161.42,1.77 158.42,9 152.88,14.54 145.65,17.54 141.73,17.54 90.55,17.54 90.55,-57.26 141.73,-57.26 145.65,-57.26 152.88,-54.27 158.42,-48.73 161.42,-41.5
Bottom Layer:
  region: -161.42,-2.15 -161.42,-37.58 -161.42,-41.5 -158.42,-48.73 -152.88,-54.27 -145.65,-57.26 -141.73,-57.26 -90.55,-57.26 -90.55,17.54 -141.73,17.54 -145.65,17.54 -152.88,14.54 -158.42,9 -161.42,1.77
  region: 161.42,-37.58 161.42,-2.15 161.42,1.77 158.42,9 152.88,14.54 145.65,17.54 141.73,17.54 90.55,17.54 90.55,-57.26 141.73,-57.26 145.65,-57.26 152.88,-54.27 158.42,-48.73 161.42,-41.5
Top Overlay:
  lines w5: -52,139 -57,139 -53,133 -47,142 -58,142 -60,145 -45,145 -43,149 -63,149 -63,153 -68,153 ; -68,153 -53,128 -38,153 -68,153
  lines w6: -147.64,-72.5 -147.64,-116.32 147.64,-116.32 147.64,-72.5 ; -147.64,32.5 -147.64,96.28 ; 147.64,32.5 147.64,96.28
  text ".Designator" at -255.7,-52.7 h35
Top Paste:
  dashed: 161.42,-37.58 161.42,-2.15 161.42,1.77 158.42,9 152.88,14.54 145.65,17.54 141.73,17.54 90.55,17.54 90.55,-57.26 141.73,-57.26 145.65,-57.26 152.88,-54.27 158.42,-48.73 161.42,-41.5
  dashed: -161.42,-2.15 -161.42,-37.58 -161.42,-41.5 -158.42,-48.73 -152.88,-54.27 -145.65,-57.26 -141.73,-57.26 -90.55,-57.26 -90.55,17.54 -141.73,17.54 -145.65,17.54 -152.88,14.54 -158.42,9 -161.42,1.77
Bottom Paste:
  dashed: 161.42,-37.58 161.42,-2.15 161.42,1.77 158.42,9 152.88,14.54 145.65,17.54 141.73,17.54 90.55,17.54 90.55,-57.26 141.73,-57.26 145.65,-57.26 152.88,-54.27 158.42,-48.73 161.42,-41.5
  dashed: -161.42,-2.15 -161.42,-37.58 -161.42,-41.5 -158.42,-48.73 -152.88,-54.27 -145.65,-57.26 -141.73,-57.26 -90.55,-57.26 -90.55,17.54 -141.73,17.54 -145.65,17.54 -152.88,14.54 -158.42,9 -161.42,1.77
Top Solder:
  dashed: -164.42,-37.58 -164.42,-2.15 -164.42,2.36 -160.97,10.7 -154.58,17.09 -146.24,20.54 -141.73,20.54 -87.55,20.54 -87.55,-60.26 -141.73,-60.26 -146.24,-60.26 -154.58,-56.81 -160.96,-50.43 -164.42,-42.09
  dashed: 164.42,-2.15 164.42,-37.58 164.42,-42.09 160.96,-50.43 154.58,-56.81 146.24,-60.26 141.73,-60.26 87.55,-60.26 87.55,20.54 141.73,20.54 146.24,20.54 154.58,17.09 160.97,10.7 164.42,2.36
Bottom Solder:
  dashed: 164.42,-2.15 164.42,-37.58 164.42,-42.09 160.96,-50.43 154.58,-56.81 146.24,-60.26 141.73,-60.26 87.55,-60.26 87.55,20.54 141.73,20.54 146.24,20.54 154.58,17.09 160.97,10.7 164.42,2.36
  dashed: -164.42,-37.58 -164.42,-2.15 -164.42,2.36 -160.97,10.7 -154.58,17.09 -146.24,20.54 -141.73,20.54 -87.55,20.54 -87.55,-60.26 -141.73,-60.26 -146.24,-60.26 -154.58,-56.81 -160.96,-50.43 -164.42,-42.09
Top 3D Body:
  region: -165,-57.42 -150,-57.42 -150,-117.5 150,-117.5 150,-56.42 165,-56.42 165,22.5 150,22.5 150,97.5 130,97.5 130,117.5 -130,117.5 -130,97.5 -150,97.5 -150,22.5 -165,22.5
Top Component Center:
  circle w1: c0,82.5 r11.81
  lines w1: -15.75,82.5 15.75,82.5 ; 0,66.75 0,98.25
Top Assembly:
  circle w20: c-50,82.5 r10
  lines w5: -147.64,-116.32 147.64,-116.32 147.64,96.28 -147.64,96.28 -147.64,-116.32
  text "1050170001" at -60,-331.4 h30
Mechanical42:
  text "3" at 0,79.05 h16
  text "2" at -25.59,79.05 h16
  text "11" at 39.37,-32.66 h16
  text "6" at -137.8,-26.26 h16
  text "5" at 51.18,79.05 h16
  text "8" at -98.43,80.04 h16
  text "10" at -39.37,-32.66 h16
  text "9" at 98.43,80.04 h16
  text "7" at 137.8,-26.26 h16
  text "1" at -51.18,79.05 h16
  text "4" at 25.59,79.05 h16
Mechanical44:
  lines w5: -214,409.5 246,409.5
  text "Sofer Lib Information" at -214,419.5 h25
  text "Ref PN: MOLEX_105017-001" at -184,369.5 h25
  text "Creat : Yuki" at -184,329.5 h25
  text "Date  : 2014-07-16" at -184,289.5 h25
  text "Rev   : A1" at -184,249.5 h25
  text "Remark: D031-012A1" at -184,209.5 h25
Mechanical45:
  text "MICRO_USB_B_105017" at 25,-427.4 h30
Mechanical46:
  text "NO" at 0,-65.5 h35
3D body: height 150, standoff 0, extent -165,-117.5 165,117.5

## MOLEX_47590001 [mil] "MOLEX_47590001"
pads (10):
  rect 16x53 smd: 1(51.18,85.06) 2(25.59,85.06) 3(0,85.06) 4(-25.59,85.06) 5(-51.18,85.06)
  oval 42x63 hole 30 slot 33 at 90 deg: 6(89.57,97.86) 7(-89.57,97.86)
  oval 55x75 hole 33 slot 59 at 90 deg: 8(-163.39,-27.34) 9(163.39,-27.34)
  rect 114x79 smd: 10(0,-20.25)
Top Overlay:
  lines w5: 48,136.56 43,136.56 47,130.56 53,139.56 42,139.56 40,142.56 55,142.56 57,146.56 37,146.56 37,150.56 32,150.56 ; 32,150.56 62,150.56 47,125.56 32,150.56
  lines w6: -147.64,-79.94 -147.64,-107.26 ; -147.64,25.06 -147.64,85.65 -125,85.65 ; -135.83,-107.26 -143.77,-120.88 -149.61,-130.88 -161.42,-130.88 -155.58,-120.88 -147.64,-107.26 ; -118.11,-106.91 -118.11,-119.07 ccw(c-106.3,-119.07) -106.3,-130.88 106.3,-130.88 ccw(c106.3,-119.07) 118.11,-119.07 118.11,-106.91 ; 125,85.65 147.64,85.65 147.64,25.06 ; 135.83,-107.26 143.77,-120.88 149.61,-130.88 161.42,-130.88 155.58,-120.88 147.64,-107.26 ; 147.64,-79.94 147.64,-107.26 ; -147.64,-107.26 147.64,-107.26
  text "5" at -60,125.06 h25
  text ".Designator" at -155,61.26 h35
Top 3D Body:
  region: 150,15.06 190,15.06 190,-69.94 150,-69.94 150,-104.94 164.78,-130.07 -162.51,-129.96 -150,-104.94 -150,-69.94 -190,-69.94 -190,15.06 -150,15.06 -150,85.06 -115,85.06 -115,130.06 115,130.06 115,85.06 150,85.06
Top Component Center:
  circle w1: c0,85.06 r11.81
  lines w1: -15.75,85.06 15.75,85.06 ; 0,69.31 0,100.81
Top Assembly:
  lines w5: -135.83,-107.26 -143.77,-120.88 -149.61,-130.88 -161.42,-130.88 -155.58,-120.88 -147.64,-107.26 ; -118.11,-106.91 -118.11,-119.07 ccw(c-106.3,-119.07) -106.3,-130.88 106.3,-130.88 ccw(c106.3,-119.07) 118.11,-119.07 118.11,-106.91 ; -98.43,85.65 -98.43,97.46 98.43,97.46 98.43,85.65 ; 135.83,-107.26 143.77,-120.88 149.61,-130.88 161.42,-130.88 155.58,-120.88 147.64,-107.26 ; -147.64,-107.26 147.64,-107.26 ; -147.64,-107.26 -147.64,-44.07 -170.28,-44.07 -170.28,-10.61 -147.64,-10.61 -147.64,85.65 147.64,85.65 147.64,-10.61 170.28,-10.61 170.28,-44.07 147.64,-44.07 147.64,-107.26
  text "475900001" at -35,-352.94 h30
Mechanical42:
  text "3" at 0,78.66 h16
  text "2" at 25.59,78.66 h16
  text "4" at -25.59,78.66 h16
  text "9" at 163.39,-33.74 h16
  text "10" at 0,-33.05 h16
  text "6" at 89.57,91.46 h16
  text "8" at -163.39,-33.74 h16
  text "7" at -89.57,91.46 h16
  text "5" at -51.18,78.66 h16
  text "1" at 51.18,78.66 h16
Mechanical44:
  lines w5: -201,418.28 259,418.28
  text "Remark: D031-005A1" at -171,218.28 h25
  text "Rev   : A1" at -171,258.28 h25
  text "Date  : 2011-10-18" at -171,298.28 h25
  text "Creat : Yuki" at -171,338.28 h25
  text "Ref PN: MOLEX 47590001" at -171,378.28 h25
  text "Sofer Lib Information" at -201,428.28 h25
Mechanical45:
  text "MOLEX_47590001" at 15,-417.94 h30
3D body: height 150, standoff 0, extent -190,-130.07 190,130.06